# EAGLE library part CD4001BE (library custom)
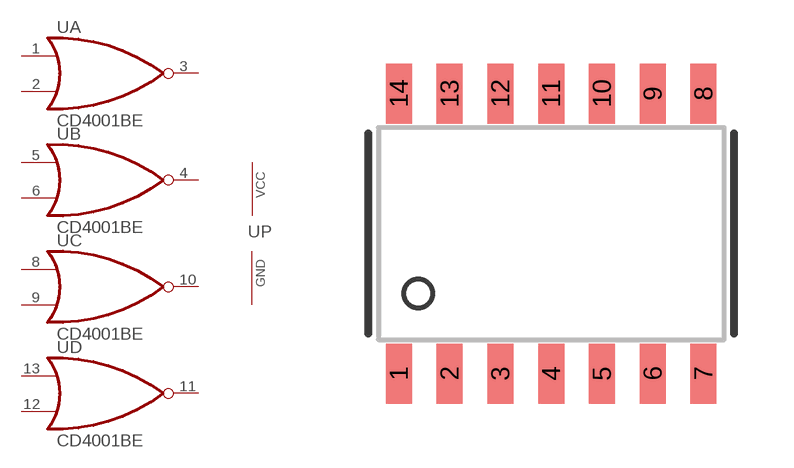
[diagram p26: symbol with the pads of 14-SOICW; footprint 14-SOICW]

Designator prefix -; gates A=NOR_GATE B=NOR_GATE C=NOR_GATE D=NOR_GATE P=PWRN

## CD4001BE  [14-SOICW]
1  A:1  in
2  A:2  in
3  A:3  out
4  B:3  out
5  B:1  in
6  B:2  in
7  P:GND  pwr
8  C:1  in
9  C:2  in
10  C:3  out
11  D:3  out
12  D:2  in
13  D:1  in
14  P:VCC  pwr

## Footprint 14-SOICW (pad centres in mm)
smd 0.65 x 1.5: 1 -4.445,-3.5; 2 -3.175,-3.5; 3 -1.905,-3.5; 4 -0.635,-3.5; 5 0.635,-3.5; 6 1.905,-3.5; 7 3.175,-3.5; 8 3.175,3.5; 9 1.905,3.5; 10 0.635,3.5; 11 -0.635,3.5; 12 -1.905,3.5; 13 -3.175,3.5; 14 -4.445,3.5